# Altium schematic symbol library NRF24L01P-MODULE-PCB.SchLib: 1 symbol
Pins are listed as number, name and electrical type; pins without a type are passive.

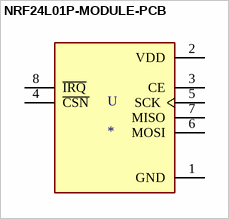
[diagram p0: symbol NRF24L01P-MODULE-PCB]

## NRF24L01P-MODULE-PCB
designator U
- Transceiver For Use With nRF24L01+; MP: NRF24L01P-MODULE-PCB; MF: Nordic Semiconductor; Package: None; Value: *; Availability: Bad; Price: None; SnapEDA_Link: https://www.snapeda.com/parts/NRF24L01P-MODULE-PCB/Nordic%20Semiconductor%20ASA/view-part/230534/?ref=snap; Mouser-Purchase-URL: https://snapeda.com/shop?store=Mouser&id=230534
footprint XCVR_NRF24L01P-MODULE-PCB
pins: 1 GND (power), 2 VDD (power), 3 CE (power), 4 ~{CSN} (power), 5 SCK (power), 6 MOSI (power), 7 MISO (power), 8 ~{IRQ} (power)